# Altium schematic symbol library NE5532APSR.Schlib: 1 symbol
Pins are listed as number, name and electrical type; pins without a type are passive.

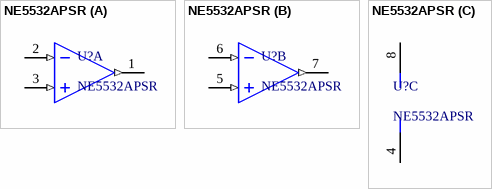
[diagram p0: symbol NE5532APSR]

## NE5532APSR
designator U?
IC OPAMP GP 2 CIRCUIT 8SO
part A pins: 1 OUT1 (out), 2 IN1- (in), 3 IN1+ (in)
part B pins: 5 IN2+ (in), 6 IN2- (in), 7 OUT2 (out)
part C pins: 4 VCC- (power), 8 VCC+ (power)